# Altium footprint library HCF4093BE.PcbLib: 1 footprints
Each footprint in its own frame and in the unit in brackets; x right, y up, seen from the top. Pads: shape width x height; smd on the part's side, far side on the other; paste and mask are expansions set on the pad; w line width, h text height; cw(c..) or ccw(c..) is an arc to the next point about the centre after c.
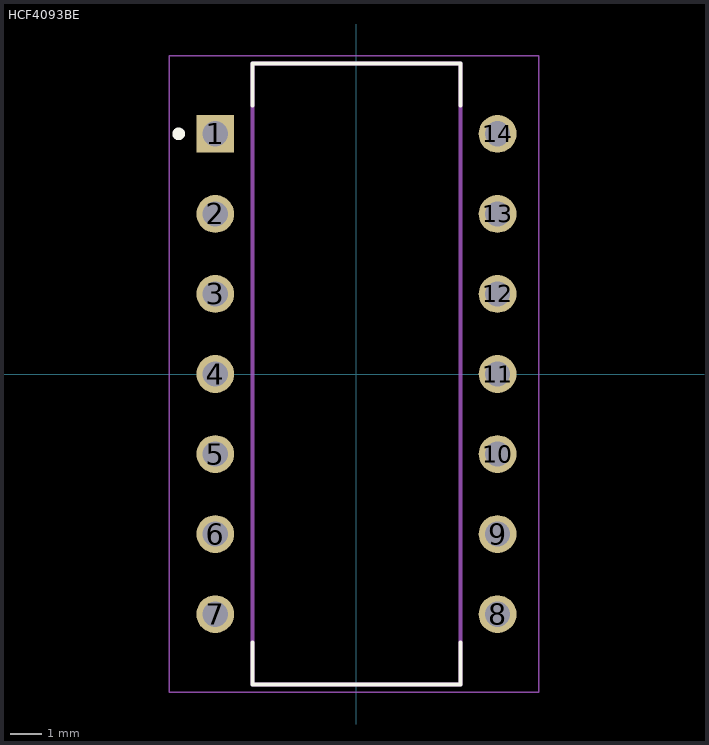
[diagram p0: the footprint, top view; thin cyan lines are the x and y axes]

## HCF4093BE [mm]
pads (14):
  rect 1.2x1.2 hole 0.8: 1(-4.478,7.62)
  round 1.2 hole 0.8: 2(-4.478,5.08) 3(-4.478,2.54) 4(-4.478,0) 5(-4.478,-2.54) 6(-4.478,-5.08) 7(-4.478,-7.62) 8(4.478,-7.62) 9(4.478,-5.08) 10(4.478,-2.54) 11(4.478,0) 12(4.478,2.54) 13(4.478,5.08) 14(4.478,7.62)
Top Overlay:
  circle w0.2: c-5.639,7.62 r0.1
  lines w0.127: -3.3,-8.525 -3.3,-9.845 3.3,-9.845 3.3,-8.525 ; -3.3,8.525 -3.3,9.845 3.3,9.845 3.3,8.525
Mechanical 13:
  lines w0.127: -3.3,-9.845 3.3,-9.845 3.3,9.845 -3.3,9.845 -3.3,-9.845
Mechanical 15:
  lines w0.05: -5.944,-10.095 5.791,-10.095 5.791,10.095 -5.944,10.095 -5.944,-10.095
3D body "CD4093BE--3DModel-STEP-56544.STEP": height 5.08, standoff -3.17, extent -5.512,-9.703 5.41,9.601